# Altium footprint library Gastroscopy-Controller.PcbLib: 28 footprints (part 1 of 2)
Each footprint in its own frame and in the unit in brackets; x right, y up, seen from the top. Pads: shape width x height; smd on the part's side, far side on the other; paste and mask are expansions set on the pad; w line width, h text height; cw(c..) or ccw(c..) is an arc to the next point about the centre after c.
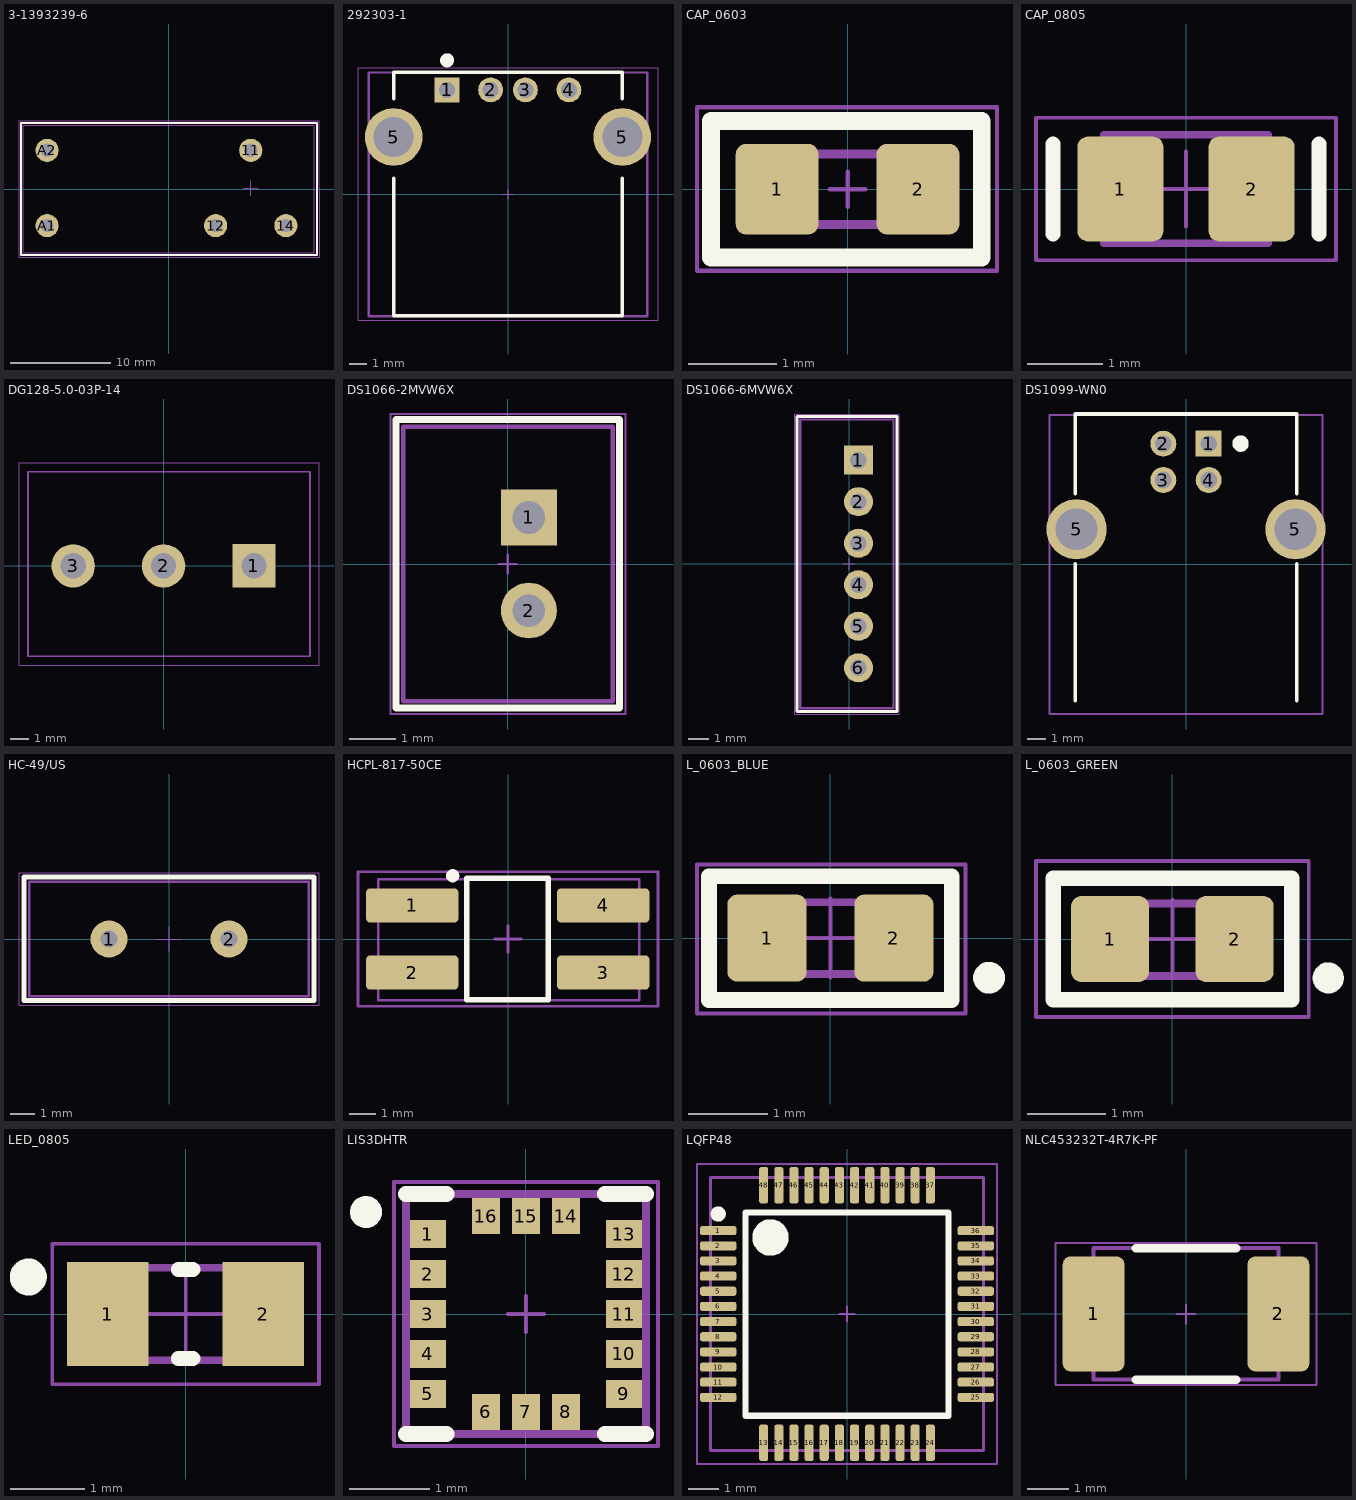
[diagram p0: the footprints below, top view; thin cyan lines are the x and y axes]

## 3-1393239-6 [mm]
height 1.12
pads (5):
  round 2.3 hole 1.32 mask+0.1: 11(8.175,3.85) 12(4.675,-3.65) 14(11.675,-3.65) A1(-12.125,-3.65) A2(-12.125,3.85)
Top Overlay:
  lines w0.2: -14.741,-6.6 -14.741,6.6 14.775,6.6 14.775,-6.6 -14.741,-6.6
Mechanical 9:
  text ".Designator" at -5.275,-9.195 h3
Mechanical 10:
  text ".Comment" at -5.175,-11.095 h2
Mechanical 13:
  lines w0.1: -14.5,-6.35 14.5,-6.35 14.5,6.35 -14.5,6.35 -14.5,-6.35
Mechanical 15:
  lines w0.1: 7.425,0.095 8.925,0.095 ; 8.175,-0.655 8.175,0.845 ; -14.925,-6.8 -14.925,6.8 14.975,6.8 14.975,-6.8 -14.925,-6.8
3D body "c-3-1393239-6-d-3d.stp": height 15.7, standoff -3.6, extent -14.5,-6.35 14.5,6.35

## 292303-1 [mm]
pads (6):
  rect 1.428x1.428 hole 0.92: 1(-3.5,6.007)
  round 1.428 hole 0.92: 2(-1,6.007) 3(1,6.007) 4(3.5,6.007)
  round 3.316 hole 2.3: 5(-6.57,3.297) 5(6.57,3.297)
Top Overlay:
  circle w0.5: c-3.5,7.707 r0.15
  lines w0.2: -6.565,0.927 -6.565,-6.983 6.565,-6.983 6.565,0.927 ; -6.565,5.507 -6.565,7.017 6.565,7.017 6.565,5.507
Mechanical 13:
  lines w0.127: -8,-7 8,-7 8,7 -8,7 -8,-7
Mechanical 15:
  lines w0.05: -0.288,0 0.288,0 ; 0,-0.288 0,0.288 ; -8.62,-7.233 8.62,-7.233 8.62,7.267 -8.62,7.267 -8.62,-7.233
3D body "292303-1--3DModel-STEP-56544.STEP": height 7.89, standoff -3.59, extent -8,-7 8,7

## CAP_0603 [mm] "Generic 0603 capacitor, IPC"
height 1
pads (2):
  rrect25% 0.94x1.03 smd: 1(-0.8,0) 2(0.8,0)
Top Overlay:
  lines w0.2: -1.55,-0.775 1.525,-0.775 1.525,0.775 -1.55,0.775 -1.55,-0.775
Mechanical 13:
  lines w0.1: -0.8,-0.4 -0.8,0.4 0.8,0.4 0.8,-0.4 -0.8,-0.4
Mechanical 15:
  lines w0.05: -0.2,0 0.2,0 ; 0,-0.2 0,0.2 ; -1.709,-0.924 1.696,-0.924 1.696,0.929 -1.709,0.929 -1.709,-0.924
3D body "CAPC0603.STEP": height 0.9, standoff 0, extent -0.8,-0.4 0.8,0.4

## CAP_0805 [mm] "Generic 0805 capacitor, IPC"
height 1.35
pads (2):
  rrect25% 1.15x1.4 smd: 1(-0.875,0) 2(0.875,0)
Top Overlay:
  lines w0.2: -1.775,-0.6 -1.775,0.6 ; 1.775,-0.6 1.775,0.6
Mechanical 13:
  lines w0.1: -1.1,-0.725 1.1,-0.725 1.1,0.725 -1.1,0.725 -1.1,-0.725
Mechanical 15:
  lines w0.05: -0.5,0 0.5,0 ; 0,-0.5 0,0.5 ; -2,-0.95 2,-0.95 2,0.95 -2,0.95 -2,-0.95
3D body "C0805.step": height 1.46, standoff 0.01, extent -1.1,-0.675 1.1,0.675

## DG128-5.0-03P-14 [mm]
pads (3):
  rect 2.4x2.4 hole 1.4: 1(5,0)
  round 2.4 hole 1.4: 2(0,0) 3(-5,0)
Mechanical 13:
  lines w0.1: -7.5,-5 8.1,-5 8.1,5.2 -7.5,5.2 -7.5,-5
Mechanical 15:
  lines w0.05: -0.3,0 0.3,0 ; 0,-0.3 0,0.3 ; -8,-5.5 8.6,-5.5 8.6,5.7 -8,5.7 -8,-4.4 -8,-5.5
3D body "DG128-5.0-03.stp": height 14.1, standoff -3.5, extent -7.5,-5 8.1,5.2

## DS1066-2MVW6X [mm]
pads (2):
  rect 1.2x1.2 hole 0.7: 1(0.45,1)
  round 1.2 hole 0.7: 2(0.45,-1)
Top Overlay:
  lines w0.15: -2.402,-3.098 2.401,-3.098 2.401,3.103 -2.402,3.103 -2.402,-3.098
Mechanical 13:
  lines w0.1: -2.25,-2.95 -2.25,2.95 2.25,2.95 2.25,-2.95 -2.25,-2.95
Mechanical 15:
  lines w0.05: -0.197,0 0.197,0 ; 0,-0.197 0,0.197 ; -2.523,-3.223 -2.523,3.224 2.528,3.224 2.528,-3.223 -2.523,-3.223
3D body "B2B-PH-K-S.STEP": height 6, standoff -3.4, extent -2.25,-2.95 2.25,2.95

## DS1066-6MVW6X [mm]
pads (6):
  rect 1.4x1.4 hole 0.8: 1(0.45,5)
  round 1.4 hole 0.8: 2(0.45,3) 3(0.45,1) 4(0.45,-1) 5(0.45,-3) 6(0.45,-5)
Top Overlay:
  lines w0.15: -2.5,-7.102 2.301,-7.102 2.301,7.099 -2.5,7.099 -2.5,-7.102
Mechanical 13:
  lines w0.1: -2.35,-6.95 2.15,-6.95 2.15,6.95 -2.35,6.95 -2.35,-6.95
Mechanical 15:
  lines w0.05: -0.268,0 0.268,0 ; 0,-0.268 0,0.268 ; -2.624,-7.225 -2.624,7.224 2.426,7.224 2.426,-7.225 -2.624,-7.225
3D body "B6B-PH-K-S.STEP": height 6, standoff -3.4, extent -2.35,-6.95 2.15,6.95

## DS1099-WN0 [mm]
pads (6):
  rect 1.428x1.428 hole 0.92: 1(1.25,6.645)
  round 1.428 hole 0.92: 2(-1.25,6.645) 3(-1.25,4.645) 4(1.25,4.645)
  round 3.316 hole 2.3: 5(-6.02,1.935) 5(6.02,1.935)
Top Overlay:
  circle w0.5: c3,6.645 r0.2
  lines w0.2: -6.1,-7.5 -6.1,0.035 ; -6.1,3.905 -6.1,8.275 6.1,8.275 6.1,3.905 ; 6.1,-7.5 6.1,0.035
Mechanical 13:
  lines w0.1: -7.5,-8.225 7.5,-8.225 7.5,8.225 -7.5,8.225 -7.5,-8.225
3D body "CUI_UJ2-BH-2-TH.step": height 11.02, standoff -3.18, extent -7.5,-8.225 7.5,8.225

## HC-49/US [mm]
pads (2):
  round 1.5 hole 0.7: 1(-2.44,0) 2(2.44,0)
Top Overlay:
  lines w0.2: -5.9,-2.5 5.9,-2.5 5.9,2.522 -5.9,2.522 -5.9,-2.5
Mechanical 13:
  lines w0.1: -5.675,-2.325 5.675,-2.325 5.675,2.325 -5.675,2.325 -5.675,-2.325
Mechanical 15:
  lines w0.05: -0.5,0 0.5,0 ; 0,-0.5 0,0.5 ; -6.1,-2.7 6.1,-2.7 6.1,2.7 -6.1,2.7 -6.1,-2.7
3D body "User Library-HC49_Crystal.step": height 3.6, standoff -12.7, extent -5.675,-2.325 5.675,2.325

## HCPL-817-50CE [mm] "SOP, 4-Leads, Body 4,58x6,50mm, Pitch 2,54mm, IPC Medium Density"
height 3.7
pads (4):
  rrect25% 3.5x1.3 smd: 1(-3.625,1.27) 2(-3.625,-1.27) 3(3.6,-1.27) 4(3.6,1.27)
Top Overlay:
  circle w0.25: c-2.094,2.394 r0.125
  lines w0.2: -1.563,-2.3 -1.563,2.3 1.52,2.3 1.52,-2.3 -1.563,-2.3
Mechanical 9:
  text ".Designator" at -5,3.3 h3
Mechanical 10:
  text ".Comment" at -2.9,-4 h2
Mechanical 13:
  lines w0.1: -4.915,-2.315 4.965,-2.315 4.965,2.265 -4.915,2.265 -4.915,-2.315
Mechanical 15:
  lines w0.1: -0.5,0 0.5,0 ; 0,-0.5 0,0.5 ; -5.675,-2.55 -5.675,2.55 5.675,2.55 5.675,-2.55 -5.675,-2.55
3D body "User Library-KB817-B.STEP": height 3.75, standoff -0.07, extent -4.915,-2.315 4.965,2.265

## L_0603_BLUE [mm]
height 1.1
pads (2):
  rrect25% 1x1.1 smd: 1(-0.8,0) 2(0.8,0)
Top Overlay:
  circle w0.2: c2,-0.5 r0.1
  lines w0.2: -1.53,-0.78 1.53,-0.78 1.53,0.78 -1.53,0.78 -1.53,-0.78
Mechanical 13:
  lines w0.1: -0.859,-0.45 -0.859,0.452 0.831,0.452 0.831,-0.45 -0.859,-0.45
Mechanical 15:
  lines w0.05: -0.5,0 0.5,0 ; 0,-0.5 0,0.5 ; -1.683,-0.95 -1.683,0.927 1.703,0.927 1.703,-0.95 -1.683,-0.95
3D body "User Library-LED0603_BLUE.STEP": height 0.9, standoff 0, extent -0.85,-0.45 0.85,0.45

## L_0603_GREEN [mm]
height 1.1
pads (2):
  rrect25% 1x1.1 smd: 1(-0.8,0) 2(0.8,0)
Top Overlay:
  circle w0.2: c2,-0.5 r0.1
  lines w0.2: -1.53,-0.78 -1.53,0.78 1.53,0.78 1.53,-0.78 -1.53,-0.78
Mechanical 13:
  lines w0.1: -0.85,-0.474 0.844,-0.474 0.844,0.455 -0.85,0.455 -0.85,-0.474
Mechanical 15:
  lines w0.05: -0.5,0 0.5,0 ; 0,-0.5 0,0.5 ; -1.75,-1 1.75,-1 1.75,1 -1.75,1 -1.75,-1
3D body "User Library-LTST-C190GKT.STEP": height 0.9, standoff 0, extent -0.85,-0.45 0.85,0.45

## LED_0805 [mm] "0805 (2012 Metric), Pin 1 mark - Cathode, IPC"
height 0.8
pads (2):
  rect 1.1x1.4 smd: 1(-1.05,0) 2(1.05,0)
Top Overlay:
  circle w0.25: c-2.125,0.5 r0.125
  lines w0.2: -0.1,-0.6 0.1,-0.6 ; -0.1,0.6 0.1,0.6
Mechanical 13:
  lines w0.1: -1,-0.625 1,-0.625 1,0.625 -1,0.625 -1,-0.625
Mechanical 15:
  lines w0.05: -0.5,0 0.5,0 ; 0,-0.5 0,0.5 ; -1.8,-0.95 1.8,-0.95 1.8,0.95 -1.8,0.95 -1.8,-0.95
3D body "LED0805.stp": height 0.7, standoff 0, extent -1,-0.625 1,0.625

## LIS3DHTR [mm]
height 2.09
pads (16):
  rect 0.45x0.35 smd paste-1 mask+0: 1(-1.225,1) 2(-1.225,0.5) 3(-1.225,0) 4(-1.225,-0.5) 5(-1.225,-1) 9(1.225,-1) 10(1.225,-0.5) 11(1.225,0) 12(1.225,0.5) 13(1.225,1)
  rect 0.35x0.45 smd paste-1 mask+0: 6(-0.5,-1.225) 7(0,-1.225) 8(0.5,-1.225) 14(0.5,1.225) 15(0,1.225) 16(-0.5,1.225)
Top Overlay:
  circle w0.2: c-2,1.275 r0.1
  lines w0.2: -1.5,-1.5 -0.99,-1.5 ; -1.5,1.5 -0.99,1.5 ; 0.99,-1.5 1.5,-1.5 ; 0.99,1.5 1.5,1.5
Top Paste:
  region: 0.14,-1.405 -0.14,-1.405 -0.14,-1.045 0.14,-1.045
  region: -1.045,-0.14 -1.405,-0.14 -1.405,0.14 -1.045,0.14
  region: 1.405,-0.14 1.045,-0.14 1.045,0.14 1.405,0.14
  region: 0.14,1.045 -0.14,1.045 -0.14,1.405 0.14,1.405
  region: -0.36,1.045 -0.64,1.045 -0.64,1.405 -0.36,1.405
  region: 0.64,1.045 0.36,1.045 0.36,1.405 0.64,1.405
  region: 1.405,0.36 1.045,0.36 1.045,0.64 1.405,0.64
  region: 1.405,0.86 1.045,0.86 1.045,1.14 1.405,1.14
  region: 1.405,-0.64 1.045,-0.64 1.045,-0.36 1.405,-0.36
  region: 1.405,-1.14 1.045,-1.14 1.045,-0.86 1.405,-0.86
  region: 0.64,-1.405 0.36,-1.405 0.36,-1.045 0.64,-1.045
  region: -0.36,-1.405 -0.64,-1.405 -0.64,-1.045 -0.36,-1.045
  region: -1.045,-0.64 -1.405,-0.64 -1.405,-0.36 -1.045,-0.36
  region: -1.045,-1.14 -1.405,-1.14 -1.405,-0.86 -1.045,-0.86
  region: -1.045,0.36 -1.405,0.36 -1.405,0.64 -1.045,0.64
  region: -1.045,0.86 -1.405,0.86 -1.405,1.14 -1.045,1.14
Top Solder:
  region: -0.95,-0.225 -1.5,-0.225 -1.5,0.225 -0.95,0.225
  region: 1.5,-0.225 0.95,-0.225 0.95,0.225 1.5,0.225
  region: 0.225,0.95 -0.225,0.95 -0.225,1.5 0.225,1.5
  region: 0.225,-1.5 -0.225,-1.5 -0.225,-0.95 0.225,-0.95
  region: -0.275,0.95 -0.725,0.95 -0.725,1.5 -0.275,1.5
  region: 0.725,0.95 0.275,0.95 0.275,1.5 0.725,1.5
  region: -0.95,0.275 -1.5,0.275 -1.5,0.725 -0.95,0.725
  region: -0.95,0.775 -1.5,0.775 -1.5,1.225 -0.95,1.225
  region: -0.95,-0.725 -1.5,-0.725 -1.5,-0.275 -0.95,-0.275
  region: -0.95,-1.225 -1.5,-1.225 -1.5,-0.775 -0.95,-0.775
  region: -0.275,-1.5 -0.725,-1.5 -0.725,-0.95 -0.275,-0.95
  region: 0.725,-1.5 0.275,-1.5 0.275,-0.95 0.725,-0.95
  region: 1.5,-0.725 0.95,-0.725 0.95,-0.275 1.5,-0.275
  region: 1.5,-1.225 0.95,-1.225 0.95,-0.775 1.5,-0.775
  region: 1.5,0.275 0.95,0.275 0.95,0.725 1.5,0.725
  region: 1.5,0.775 0.95,0.775 0.95,1.225 1.5,1.225
Mechanical 13:
  lines w0.1: -1.5,-1.5 -1.5,1.5 1.5,1.5 1.5,-1.5 -1.5,-1.5
Mechanical 15:
  lines w0.05: -0.225,0 0.225,0 ; 0,-0.225 0,0.225 ; -1.651,-1.65 -1.651,1.65 1.652,1.65 1.652,-1.65 -1.651,-1.65
3D body "step_temp.STEP": height 1.02, standoff 0.02, extent -1.5,-1.5 1.5,1.5

## LQFP48 [mm] "Thin QFP, 48-Leads, Body 7x7mm, Pitch 0.5mm, IPC Medium Density"
height 1.6
pads (48):
  rrect50% 1.2x0.3 smd mask+0.05: 1(-4.25,2.75) 2(-4.25,2.25) 3(-4.25,1.75) 4(-4.25,1.25) 5(-4.25,0.75) 6(-4.25,0.25) 7(-4.25,-0.25) 8(-4.25,-0.75) 9(-4.25,-1.25) 10(-4.25,-1.75) 11(-4.25,-2.25) 12(-4.25,-2.75) 25(4.25,-2.75) 26(4.25,-2.25) 27(4.25,-1.75) 28(4.25,-1.25) 29(4.25,-0.75) 30(4.25,-0.25) 31(4.25,0.25) 32(4.25,0.75) 33(4.25,1.25) 34(4.25,1.75) 35(4.25,2.25) 36(4.25,2.75)
  rrect50% 0.3x1.2 smd mask+0.05: 13(-2.75,-4.25) 14(-2.25,-4.25) 15(-1.75,-4.25) 16(-1.25,-4.25) 17(-0.75,-4.25) 18(-0.25,-4.25) 19(0.25,-4.25) 20(0.75,-4.25) 21(1.25,-4.25) 22(1.75,-4.25) 23(2.25,-4.25) 24(2.75,-4.25) 37(2.75,4.25) 38(2.25,4.25) 39(1.75,4.25) 40(1.25,4.25) 41(0.75,4.25) 42(0.25,4.25) 43(-0.25,4.25) 44(-0.75,4.25) 45(-1.25,4.25) 46(-1.75,4.25) 47(-2.25,4.25) 48(-2.75,4.25)
Top Overlay:
  circle w0.25: c-4.25,3.3 r0.125
  circle w0.6: c-2.525,2.525 r0.3
  lines w0.2: -3.35,-3.358 3.35,-3.358 3.35,3.35 -3.35,3.35 -3.35,-3.358
Mechanical 9:
  text ".Designator" at -5.2,5.6 h3
Mechanical 10:
  text ".Comment" at -3.1,-6.5 h2
Mechanical 13:
  lines w0.1: -4.5,-4.5 -4.5,4.5 4.5,4.5 4.5,-4.5 -4.5,-4.5
Mechanical 15:
  lines w0.05: -0.25,0 0.25,0 ; 0,-0.25 0,0.25 ; -4.95,-4.95 -4.95,4.95 4.95,4.95 4.95,-4.95 -4.95,-4.95
3D body "vbh48a.stp": height 1.46, standoff -0.04, extent -4.508,-4.508 4.508,4.508

## NLC453232T-4R7K-PF [mm]
height 1.4
pads (2):
  rrect25% 1.5x2.8 smd: 1(-2.25,0) 2(2.25,0)
Top Overlay:
  lines w0.2: -1.225,-1.6 1.225,-1.6 ; -1.225,1.6 1.225,1.6
Mechanical 13:
  lines w0.1: -2.25,-1.6 2.25,-1.6 2.25,1.6 -2.25,1.6 -2.25,-1.6
Mechanical 15:
  lines w0.05: -0.225,0 0.225,0 ; 0,-0.25 0,0.225 ; -3.174,-1.725 -3.174,1.72 3.176,1.72 3.176,-1.725 0.413,-1.725 -3.174,-1.725
3D body "NLC453232T-4R7K-PF.STEP": height 3.4, standoff 0, extent -2.25,-1.6 2.25,1.6